# EAGLE library part BTN8982TA (library SamacSys_Parts)
New Infineon BTN8982TA Motor Driver,, 7-Pin TO-263-7-1 Source: Datasheet <http://www.mouser.com/datasheet/2/196/Infineon-BTN8982TA-DS-v01_00-EN-786008.pdf>
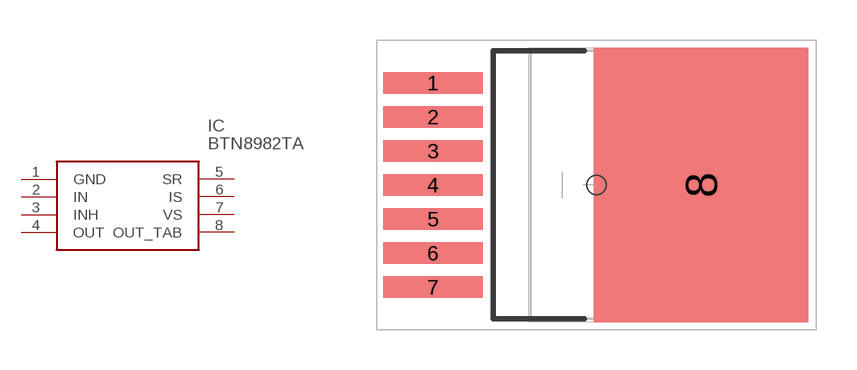
[diagram p2: symbol with the pads of TO127P1500X440-8N; footprint TO127P1500X440-8N]

Designator prefix IC

## BTN8982TA (DESCRIPTION: New Infineon BTN8982TA Motor Driver,, 7-Pin TO-263-7-1; HEIGHT: 4.4mm; MANUFACTURER_NAME: Infineon; MANUFACTURER_PART_NUMBER: BTN8982TA; MOUSER_PART_NUMBER: 726-BTN8982TA)  [TO127P1500X440-8N]
1  GND  pwr
2  IN  in
3  INH  in
4  OUT  out
5  SR
6  IS
7  VS
8  OUT_TAB  out

## Footprint TO127P1500X440-8N (pad centres in mm)
PG-TO263-7-1
smd 3.7 x 0.8: 1 -6.1,3.81; 2 -6.1,2.54; 3 -6.1,1.27; 4 -6.1,0; 5 -6.1,-1.27; 6 -6.1,-2.54; 7 -6.1,-3.81
smd 8 x 10.25: 8 3.9,0